# EAGLE library part 24LC256-MS (library _RoweTel)
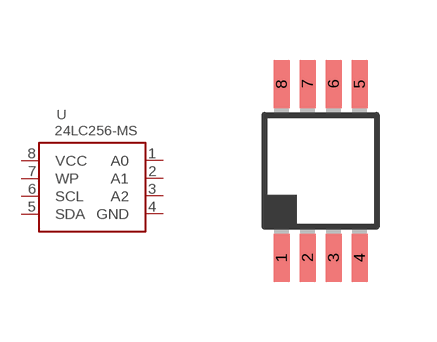
[diagram p0: symbol with the pads of MSOP-8; footprint MSOP-8]

Designator prefix U

## 24LC256-MS  [MSOP-8]
1  A0  in
2  A1  in
3  A2  in
4  GND  pwr
5  SDA
6  SCL  in
7  WP  in
8  VCC  pwr

## Footprint MSOP-8 (pad centres in mm)
smd 0.4 x 1.2: 1 -0.975,-2.175; 2 -0.325,-2.175; 3 0.325,-2.175; 4 0.975,-2.175; 5 0.975,2.175; 6 0.325,2.175; 7 -0.325,2.175; 8 -0.975,2.175